# Altium schematic symbol library MyLibrary.SchLib: 261 symbols (part 2 of 4)
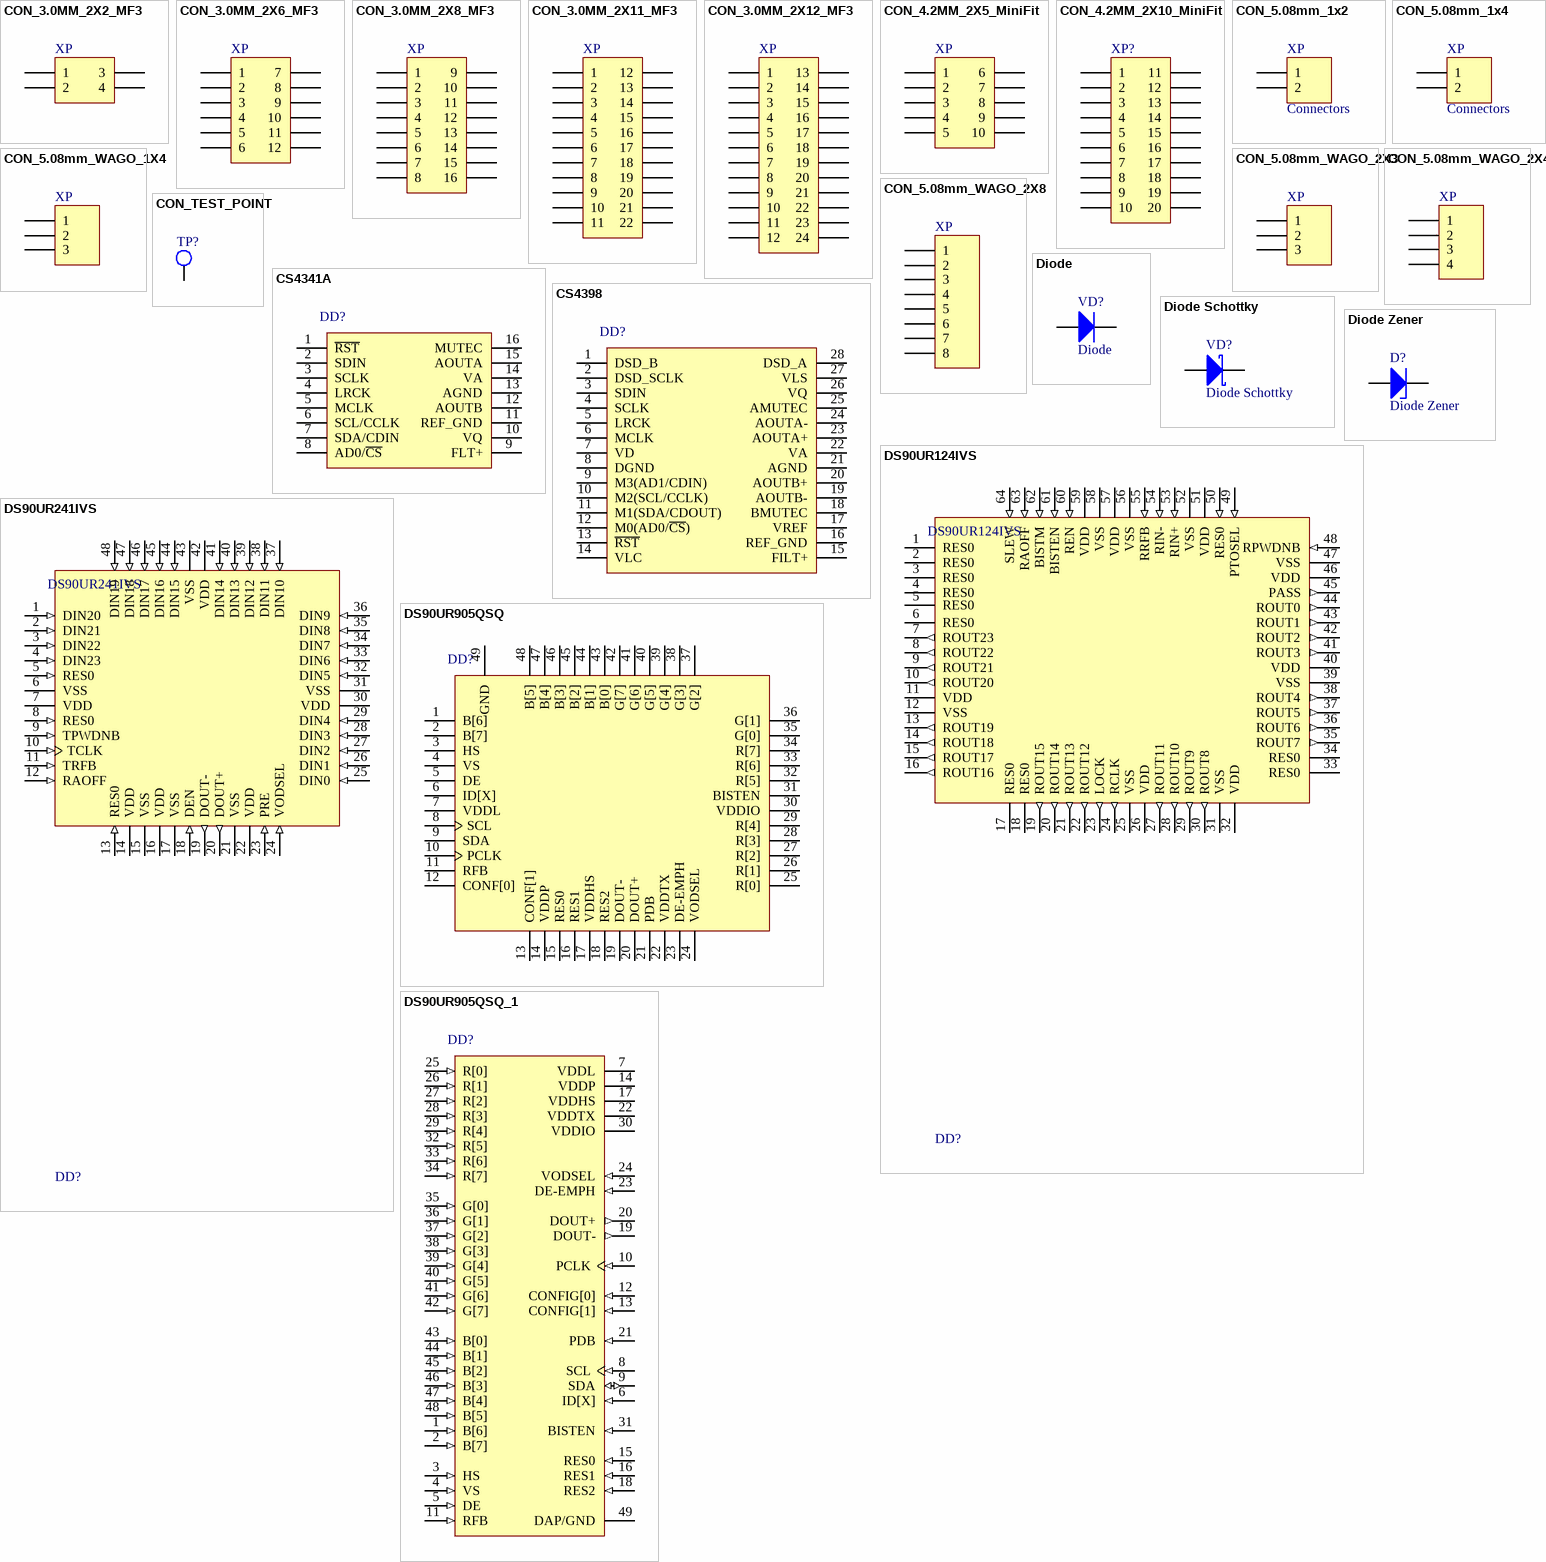
[diagram p10: symbols CON_3.0MM_2X2_MF3 to DS90UR905QSQ_1]

## CON_4.2MM_2X10_MiniFit
designator XP?
Header, 14-Pin; LatestRevisionDate: 17-Jul-2002; LatestRevisionNote: Re-released for DXP Platform.; Publisher: Altium Limited
footprint CON_4.2MM_2X10_MINIFIT (Connector; Header;)
pins: 1 "MISO", 2 "VCC+", 3 "SCK", 4 "MOSI", 5 "RESET", 6 "GND", 7 "GND", 8 "GND", 9, 10, 11, 12, 13, 14, 15, 16, 17, 18, 19, 20

## CON_5.08mm_1x2
designator XP, comment Connectors
Header, 2-Pin; LatestRevisionDate: 17-Jul-2002; LatestRevisionNote: Re-released for DXP Platform.; Publisher: Altium Limited
footprint CON_5.08MM_1X2 (Connector; Header; 2 Position)
pins: 1, 2

## CON_5.08mm_1x4
designator XP, comment Connectors
Header, 2-Pin; LatestRevisionDate: 17-Jul-2002; LatestRevisionNote: Re-released for DXP Platform.; Publisher: Altium Limited
footprint CON_5.08MM_1X4 (Connector; Header; 2 Position)
pins: 1, 2

## CON_5.08mm_WAGO_1X4
designator XP
Header, 2-Pin; LatestRevisionDate: 17-Jul-2002; LatestRevisionNote: Re-released for DXP Platform.; Publisher: Altium Limited
footprint CON_5.08MM_WAGO_1X4 (Connector; Header; 2 Position)
pins: 1, 2, 3

## CON_5.08mm_WAGO_2X3
designator XP
Header, 2-Pin; LatestRevisionDate: 17-Jul-2002; LatestRevisionNote: Re-released for DXP Platform.; Publisher: Altium Limited
footprint CON_5.08MM_WAGO_2X3 (Connector; Header; 2 Position)
pins: 1, 2, 3

## CON_5.08mm_WAGO_2X4
designator XP
Header, 2-Pin; LatestRevisionDate: 17-Jul-2002; LatestRevisionNote: Re-released for DXP Platform.; Publisher: Altium Limited
footprint CON_5.08MM_WAGO_2X4 (Connector; Header; 2 Position)
pins: 1, 2, 3, 4

## CON_5.08mm_WAGO_2X8
designator XP
Header, 2-Pin; LatestRevisionDate: 17-Jul-2002; LatestRevisionNote: Re-released for DXP Platform.; Publisher: Altium Limited
footprint CON_5.08MM_WAGO_2X8 (Connector; Header; 2 Position)
pins: 1, 2, 3, 4, 5, 6, 7, 8

## CON_TEST_POINT
designator TP?
Test Point
footprint CON_TEST_POINT (Connector; Plug)
pins: 1

## CS4341A
designator DD?
24-Bit, 192 kHz Stereo DAC with Volume Control
footprint SOIC-16_L (SOIC, 16-Leads, Body 9.9x3.9mm, Pitch 1.27mm, IPC High Density)
pins: 1 ~{RST}, 2 SDIN, 3 SCLK, 4 LRCK, 5 MCLK, 6 SCL/CCLK, 7 SDA/CDIN, 8 AD0/~{CS}, 9 FLT+, 10 VQ, 11 REF_GND, 12 AOUTB, 13 AGND, 14 VA, 15 AOUTA, 16 MUTEC

## CS4398
designator DD?
24-Bit, 192 kHz Stereo DAC with Volume Control
footprint SSOP-28W (SSOP, Plastic; 28 Leads; Body Width 5.3 mm; Pitch 0.65 mm)
pins: 1 DSD_B, 2 DSD_SCLK, 3 SDIN, 4 SCLK, 5 LRCK, 6 MCLK, 7 VD, 8 DGND, 9 M3(AD1/CDIN), 10 M2(SCL/CCLK), 11 M1(SDA/CDOUT), 12 M0(AD0/~{CS}), 13 ~{RST}, 14 VLC, 15 FILT+, 16 REF_GND, 17 VREF, 18 BMUTEC, 19 AOUTB-, 20 AOUTB+, 21 AGND, 22 VA, 23 AOUTA+, 24 AOUTA-, 25 AMUTEC, 26 VQ, 27 VLS, 28 DSD_A

## Diode
designator VD?
1 Amp General Purpose Rectifier; Published: 8-Jun-2000; LatestRevisionDate: 17-Jul-2002; LatestRevisionNote: Re-released for DXP Platform.; DatasheetVersion: 1998; PackageVersion: Aug-1999; PackageReference: DO-41; Publisher: Altium Limited; PackageDescription: Diode, Axial; Body 5.2 x 2.7 mm (LxDia. max), Lead Dia. 0.86 mm (max); Code_JEDEC: DO-204-AL; ComponentLink1Description: Manufacturer Link; ComponentLink1URL: http://www.fairchildsemi.com/; ComponentLink2Description: Datasheet; ComponentLink2URL: http://www.fairchildsemi.com/ds/1N%2F1N4001.pdf
footprint RES 0805_M (Chip Resistor, Body 2.0x1.2mm, IPC Low Density)
pins: 1 A, 2 K

## Diode Schottky
designator VD?
Silicon RF Schottky Diode for Mixer Applications in the VHF/UHF Range; Note: Pin 2 is not connected and not drawn.; Published: 21-Mar-2003; LatestRevisionDate: 29-May-2009; LatestRevisionNote: IPC-7351 Footprint Added.; DatasheetVersion: Oct-1999; PackageVersion: Sep-2001; PackageReference: SOT-23; Publisher: Altium Limited; PackageDescription: 3-Pin SOT-23 Package 0.95 mm Pitch, 2.5 mm Lead Span; ComponentLink1Description: Manufacturer Link; ComponentLink1URL: http://www.infineon.com/; ComponentLink2Description: Datasheet; ComponentLink2URL: http://www.infineon.com/upload/Document/cmc_upload/documents/009/363/bat17series.pdf
footprint RES 0805_M (Chip Resistor, Body 2.0x1.2mm, IPC Low Density)
pins: 1 A, 2 K

## Diode Zener
designator D?
Zener Diode; Published: 8-Jun-2000; LatestRevisionDate: 17-Jul-2002; LatestRevisionNote: Re-released for DXP Platform.; PackageReference: DIODE-0.7; Publisher: Altium Limited; PackageDescription: Diode, Thru-Hole; 2 Leads; 0.7 in Pin Spacing
footprint SOT-23_L (SOT23, 3-Leads, Body 2.9x1.3mm, Pitch 0.95mm, Lead Span 2.3mm - Reverse Pinning, IPC High Density)
pins: 1 A, 3 K

## DS90UR124IVS
designator DD?
Serializer 5-43 MHz DC-Balanced 24-Bit LVDS
footprint TQFP64_L (Thin QFP, 64-Leads, Body 10x10mm, Pitch 0.5mm, IPC High Density)
footprint TQFP64_M (Thin QFP, 64-Leads, Body 10x10mm, Pitch 0.5mm, IPC Low Density)
footprint TQFP64_N (Thin QFP, 64-Leads, Body 10x10mm, Pitch 0.5mm, IPC Medium Density)
pins: 1 RES0, 2 RES0, 3 RES0, 4 RES0, 5 RES0, 6 RES0, 7 ROUT23 (out), 8 ROUT22 (out), 9 ROUT21 (out), 10 ROUT20 (out), 11 VDD (power), 12 VSS (power), 13 ROUT19 (out), 14 ROUT18 (out), 15 ROUT17 (out), 16 ROUT16 (out), 17 RES0, 18 RES0, 19 ROUT15 (out), 20 ROUT14 (out), 21 ROUT13 (out), 22 ROUT12 (out), 23 LOCK (out), 24 RCLK (out), 25 VSS (power), 26 VDD (power), 27 ROUT11 (out), 28 ROUT10 (out), 29 ROUT9 (out), 30 ROUT8 (out), 31 VSS (power), 32 VDD (power), 33 RES0, 34 RES0, 35 ROUT7 (out), 36 ROUT6 (out), 37 ROUT5 (out), 38 ROUT4 (out), 39 VSS (power), 40 VDD (power), 41 ROUT3 (out), 42 ROUT2 (out), 43 ROUT1 (out), 44 ROUT0 (out), 45 PASS (out), 46 VDD (power), 47 VSS (power), 48 RPWDNB (in), 49 PTOSEL (in), 50 RES0 (in), 51 VDD (power), 52 VSS (power), 53 RIN+ (in), 54 RIN- (in), 55 RRFB (in), 56 VSS (power), 57 VDD (power), 58 VSS (power), 59 VDD (power), 60 REN (in), 61 BISTEN (in), 62 BISTM (in), 63 RAOFF (in), 64 SLEW (in)

## DS90UR241IVS
designator DD?
Deserializer 5-43 MHz DC-Balanced 24-Bit LVDS
footprint TQFP48_L (Thin QFP, 48-Leads, Body 7x7mm, Pitch 0.5mm, IPC High Density)
footprint TQFP48_M (Thin QFP, 48-Leads, Body 7x7mm, Pitch 0.5mm, IPC Low Density)
footprint TQFP48_N (Thin QFP, 48-Leads, Body 7x7mm, Pitch 0.5mm, IPC Medium Density)
pins: 1 DIN20 (in), 2 DIN21 (in), 3 DIN22 (in), 4 DIN23 (in), 5 RES0 (in), 6 VSS (power), 7 VDD (power), 8 RES0 (in), 9 TPWDNB (in), 10 TCLK (in), 11 TRFB (in), 12 RAOFF (in), 13 RES0 (in), 14 VDD (power), 15 VSS (power), 16 VDD (power), 17 VSS (power), 18 DEN (in), 19 DOUT- (out), 20 DOUT+ (out), 21 VSS (power), 22 VDD (power), 23 PRE (in), 24 VODSEL (in), 25 DIN0 (in), 26 DIN1 (in), 27 DIN2 (in), 28 DIN3 (in), 29 DIN4 (in), 30 VDD (power), 31 VSS (power), 32 DIN5 (in), 33 DIN6 (in), 34 DIN7 (in), 35 DIN8 (in), 36 DIN9 (in), 37 DIN10 (in), 38 DIN11 (in), 39 DIN12 (in), 40 DIN13 (in), 41 DIN14 (in), 42 VDD (power), 43 VSS (power), 44 DIN15 (in), 45 DIN16 (in), 46 DIN17 (in), 47 DIN18 (in), 48 DIN19 (in)

## DS90UR905QSQ
designator DD?
Serializer and Deserializer 5- to 65-MHz, 24-bit Color FPD-Link II
footprint QFN48 (QFN, 48-Leads, Body 7x7mm, Pitch 0.5mm, NSC Recommended)
pins: 1 B[6], 2 B[7], 3 HS, 4 VS, 5 DE, 6 ID[X], 7 VDDL, 8 SCL, 9 SDA, 10 PCLK, 11 RFB, 12 CONF[0], 13 CONF[1], 14 VDDP, 15 RES0, 16 RES1, 17 VDDHS, 18 RES2, 19 DOUT-, 20 DOUT+, 21 PDB, 22 VDDTX, 23 DE-EMPH, 24 VODSEL, 25 R[0], 26 R[1], 27 R[2], 28 R[3], 29 R[4], 30 VDDIO, 31 BISTEN, 32 R[5], 33 R[6], 34 R[7], 35 G[0], 36 G[1], 37 G[2], 38 G[3], 39 G[4], 40 G[5], 41 G[6], 42 G[7], 43 B[0], 44 B[1], 45 B[2], 46 B[3], 47 B[4], 48 B[5], 49 GND

## DS90UR905QSQ_1
designator DD?
Serializer and Deserializer 5- to 65-MHz, 24-bit Color FPD-Link II
footprint QFN48 (QFN, 48-Leads, Body 7x7mm, Pitch 0.5mm, NSC Recommended)
pins: 1 B[6] (in), 2 B[7] (in), 3 HS (in), 4 VS (in), 5 DE (in), 6 ID[X] (in), 7 VDDL (power), 8 SCL (in), 9 SDA (io), 10 PCLK (in), 11 RFB (in), 12 CONFIG[0] (in), 13 CONFIG[1] (in), 14 VDDP (power), 15 RES0 (in), 16 RES1 (in), 17 VDDHS (power), 18 RES2 (in), 19 DOUT- (out), 20 DOUT+ (out), 21 PDB (in), 22 VDDTX (power), 23 DE-EMPH (in), 24 VODSEL (in), 25 R[0] (in), 26 R[1] (in), 27 R[2] (in), 28 R[3] (in), 29 R[4] (in), 30 VDDIO (power), 31 BISTEN (in), 32 R[5] (in), 33 R[6] (in), 34 R[7] (in), 35 G[0] (in), 36 G[1] (in), 37 G[2] (in), 38 G[3] (in), 39 G[4] (in), 40 G[5] (in), 41 G[6] (in), 42 G[7] (in), 43 B[0] (in), 44 B[1] (in), 45 B[2] (in), 46 B[3] (in), 47 B[4] (in), 48 B[5] (in), 49 DAP/GND (power)

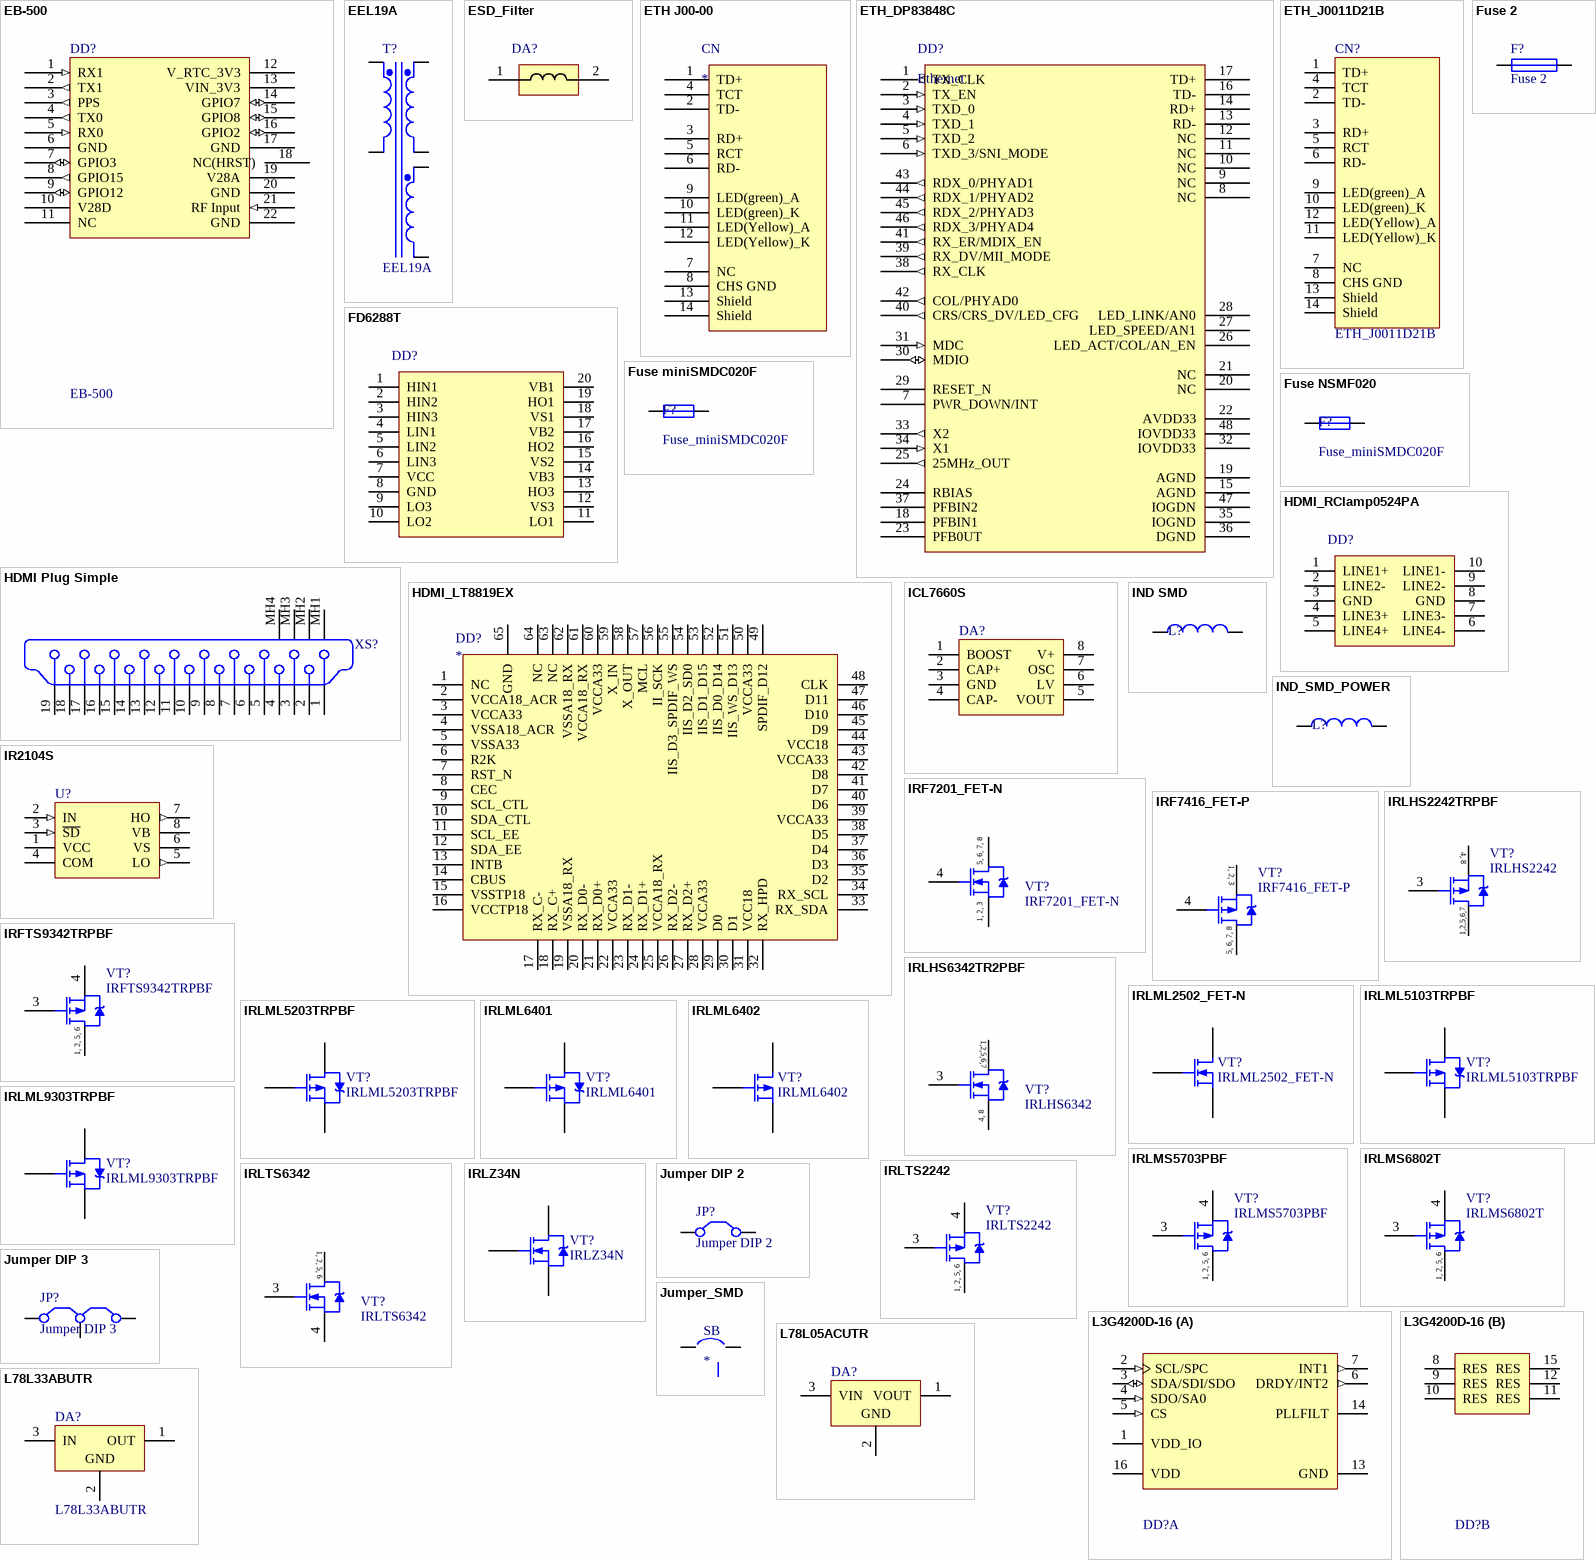
[diagram p3: symbols EB-500 to L78L33ABUTR]

## EB-500
designator DD?
GPS engine board; Published: 1-Apr-2010; DatasheetVersion: revC, Jul-2009; PackageVersion: revB, Oct-2001; PackageReference: 32A; Publisher: Altium Limited; PackageDescription: 32-Lead, 7x7x1.0 mm Body, 0.8mm Lead Pitch, Thin Profile Plastic Quad Flat Package (TQFP); Supplier 1: Digi-Key; Supplier Part Number 1: ATMEGA8A-AU-ND; Supplier 2: Farnell; Supplier Part Number 2: 1748532; Supplier 3: Mouser; Supplier Part Number 3: 556-ATMEGA8A-AU; Code_JEDEC: MS-026-ABA; ComponentLink1Description: Manufacturer Link; ComponentLink1URL: http://www.atmel.com/products/avr/default.asp?; ComponentLink2Description: ATmega8A Datasheet; ComponentLink2URL: http://www.atmel.com/dyn/resources/prod_documents/doc8159.pdf; ComponentLink3Description: ATmega8A Summary; ComponentLink3URL: http://www.atmel.com/dyn/resources/prod_documents/8159S.pdf; ComponentLink4Description: Atmel.com Home; ComponentLink4URL: http://www.atmel.com
footprint EB500_127P1300X1500X200-22N (LCC, 22-Pins, Body 13,0x15,0mm (max), Pitch 1,27mm, IPC Medium Density)
pins: 1 RX1 (in), 2 TX1 (out), 3 PPS (out), 4 TX0 (out), 5 RX0 (in), 6 GND (power), 7 GPIO3 (io), 8 GPIO15 (out) "GPS status, blink when GPS has position fix", 9 GPIO12 (io), 10 V28D (power), 11 NC, 12 V_RTC_3V3 (power), 13 VIN_3V3 (power), 14 GPIO7 (io), 15 GPIO8 (io), 16 GPIO2 (io), 17 GND (power), 18 NC(HRST) "NC (GPS reset, active low. Internal pull high", 19 V28A (power), 20 GND (power), 21 RF Input (in) "Antenna port, L1, 1575.42MHz, 50 ohm", 22 GND (power)

## EEL19A
designator T?
Three-winding Transformer (Non-Ideal); Sim Note: Enter the turns ratios, Core loss resistance, Magnetising Reactance, Leakage Reactances and Resistances referred to the primary side into the parameter fields.; Published: 25-Jan-2001; LatestRevisionDate: 17-Jul-2002; LatestRevisionNote: Re-released for DXP Platform.; PackageReference: TRF_6; Publisher: Altium Limited; PackageDescription: Transformer; 6 Leads
footprint TRF_6 (Transformer; 6 Leads)
pins: 1 Pri+, 2 Pri-, 3 Sec1+, 4 Sec1-, 5 Sec2+, 6 Sec2-

## ESD_Filter
designator DA?
ESD_Filter
footprint IND 0402 (Chip Capacitor; Body 1.0 x 0.5 mm (LxW typ))
footprint IND 0603_N (Chip Capacitor; Body 1.6 x 0.8 mm (LxW typ))
footprint IND 0805_N (Chip Resistor, Body 2.0x1.2mm, IPC Low Density)
pins: 1, 2

## ETH J00-00
designator CN
footprint RJ-45 (Connector; Header; 3 Position)
pins: 1 TD+, 2 TD-, 3 RD+, 4 TCT, 5 RCT, 6 RD-, 7 NC, 8 CHS GND, 9 LED(green)_A, 10 LED(green)_K, 11 LED(Yellow)_A, 12 LED(Yellow)_K, 13 Shield, 14 Shield

## ETH_DP83848C
designator DD?, comment Ethernet
DP83848C PHUTER Commercial Temperature Single Port 10/100 Mb/s Ethernrt Physical Layer Transceiver; Published: 30-May-2008; DatasheetVersion: rev6, Mar-2008; PackageVersion: Mar-2008; PackageReference: LQFP48; Publisher: Altium Limited; PackageDescription: 48-Pin Low-Profile Quad Flat Pack, 7 x 7 mm Body, 0.5 mm Pitch (LQFP48); ComponentLink1Description: Manufacturer Link; ComponentLink1URL: www.st.com/stm32; ComponentLink2Description: Datasheet; ComponentLink2URL: http://www.st.com/stonline/products/literature/ds/13586.pdf
footprint LQFP48_N (Thin QFP, 48-Leads, Body 7x7mm, Pitch 0.5mm, IPC Medium Density)
pins: 1 TX_CLK (out), 2 TX_EN (in), 3 TXD_0 (in), 4 TXD_1 (in), 5 TXD_2 (in), 6 TXD_3/SNI_MODE (in), 7 PWR_DOWN/INT, 8 NC, 9 NC, 10 NC, 11 NC, 12 NC, 13 RD-, 14 RD+, 15 AGND (power), 16 TD-, 17 TD+, 18 PFBIN1 (power), 19 AGND (power), 20 NC, 21 NC, 22 AVDD33 (power), 23 PFB0UT (power), 24 RBIAS (power), 25 25MHz_OUT (out), 26 LED_ACT/COL/AN_EN, 27 LED_SPEED/AN1, 28 LED_LINK/AN0, 29 RESET_N, 30 MDIO (io), 31 MDC (in), 32 IOVDD33 (power), 33 X2 (out), 34 X1 (in), 35 IOGND (power), 36 DGND (power), 37 PFBIN2 (power), 38 RX_CLK (out), 39 RX_DV/MII_MODE (out), 40 CRS/CRS_DV/LED_CFG (out), 41 RX_ER/MDIX_EN (out), 42 COL/PHYAD0 (out), 43 RDX_0/PHYAD1 (out), 44 RDX_1/PHYAD2 (out), 45 RDX_2/PHYAD3 (out), 46 RDX_3/PHYAD4 (out), 47 IOGDN (power), 48 IOVDD33 (power)

## ETH_J0011D21B
designator CN?
footprint Model Name (Footprint not found)
footprint ETH_J0011D21B
pins: 1 TD+, 2 TD-, 3 RD+, 4 TCT, 5 RCT, 6 RD-, 7 NC, 8 CHS GND, 9 LED(green)_A, 10 LED(green)_K, 11 LED(Yellow)_K, 12 LED(Yellow)_A, 13 Shield, 14 Shield

## FD6288T
designator DD?
250V 3-Phase HVIC
footprint TSSOP-20_N (SOP, 20-Leads, Body 6.6x4.5mm, Pitch 0.65mm, IPC Medium Density)
pins: 1 HIN1 "Boot memory selection", 2 HIN2 "PF0-OSC_IN(PF0)/OSC_IN", 3 HIN3 "PF1-OSC_OUT(PF1)/OSC_OUT", 4 LIN1 "Device reset input / internal reset output (active low)", 5 LIN2 "Analog power supply", 6 LIN3 "PA0/USART1_CTS/ADC_IN0,RTC_TAMP2,WKUP1", 7 VCC "PA1/USART1_RTS,EVENTOUT/ADC_IN1", 8 GND "PA2/USART1_TX/ADC_IN2", 9 LO3 "PA3/USART1_RX/ADC_IN3", 10 LO2 "PA4/SPI1_NSS,USART1_CK,TIM14_CH1/ADC_IN4", 11 LO1 "PA5/SPI1_SCK/ADC_IN5", 12 VS3 "PA6/SPI1_MISO,TIM3_CH1,TIM1_BKIN,TIM16_CH1,EVENTOUT/ADC_IN6", 13 HO3 "PA7/SPI1_MOSI,TIM3_CH2,TIM14_CH1,TIM1_CH1N,TIM17_CH1,EVENTOUT/ADC_IN7", 14 VB3 "PB1/TIM3_CH4,TIM14_CH1,TIM1_CH3N/ADC_IN9", 15 VS2 "Ground", 16 HO2 "Digital power supply", 17 VB2 "PA9/USART1_TX,TIM1_CH2,I2C1_SCL", 18 VS1 "PA10/USART1_RX,TIM1_CH3,TIM17_BKIN,I2C1_SDA", 19 HO1 "PA13(SWDIO)/IR_OUT,SWDIO", 20 VB1 "PA14(SWCLK)/USART1_TX,SWCLK"

## Fuse 2
designator F?
Fuse; Published: 8-Jun-2000; LatestRevisionDate: 17-Jul-2002; LatestRevisionNote: Re-released for DXP Platform.; PackageReference: PIN-W2/E2.8; Publisher: Altium Limited; PackageDescription: Thru-Hole; 2 Leads
simulation model FUSE (Spice Subcircuit)
footprint FUSE 2 (Thru-Hole; 2 Leads)
pins: 1, 2

## Fuse miniSMDC020F
designator F?, comment Fuse_miniSMDC020F
Fuse; Published: 8-Jun-2000; LatestRevisionDate: 17-Jul-2002; LatestRevisionNote: Re-released for DXP Platform.; PackageReference: PIN-W2/E2.8; Publisher: Altium Limited; PackageDescription: Thru-Hole; 2 Leads
simulation model FUSE (Spice Subcircuit)
footprint FUSE_miniSMDC020F (Chip Capacitor, Body 3.2x2.5mm, IPC High Density)
pins: 1, 2

## Fuse NSMF020
designator F?, comment Fuse_miniSMDC020F
Fuse; Published: 8-Jun-2000; LatestRevisionDate: 17-Jul-2002; LatestRevisionNote: Re-released for DXP Platform.; PackageReference: PIN-W2/E2.8; Publisher: Altium Limited; PackageDescription: Thru-Hole; 2 Leads
simulation model FUSE (Spice Subcircuit)
footprint FUSE 1812 (Chip Resistor; Body 4.5 x 3.2 mm (LxW typ))
pins: 1, 2

## HDMI Plug Simple
designator XS?
HDMI ver1.3 Type C, Surface Mount, 19-Position, 3u" Au Terminal Plating, without Post; PCB_Layout: Complies with manufacturer's recommendation.; Published: 21-Sep-2007; DatasheetVersion: rev1, Nov-2006; PackageReference: mini-HDMI; Publisher: Altium Limited; PackageDescription: HDMI 1.3 Type C, SM, 19 Position, Female, Right Angle, Body 7.9 x 11.2 x 3.3 mm (LxWxH); ComponentLink1Description: Manufacturer Link; ComponentLink1URL: http://www.wieson.com/; ComponentLink2Description: Datasheet; ComponentLink2URL: http://www.wieson.com/drawing_dwn.php?ID=990&Field=ProImg
footprint HDMI RIGHT ANGLE SMT (3168 Series HDMI Type C, Female, Right-Angle, SMT)
pins: 1 "TMDS Data2+", 2 "TMDS Data2 Shield", 3 "TMDS Data2-", 4 "TMDS Data1+", 5 "TMDS Data1 Shield", 6 "TMDS Data1-", 7 "TMDS Data0+", 8 "TMDS Data0 Shield", 9 "TMDS Data0-", 10 "TMDS Clock+", 11 "TMDS Clock Shield", 12 "TMDS Clock-", 13 "CEC", 14 "Reserved (N/C on device)", 15 "SCL", 16 "SDA", 17 "DDC/CEC Ground", 18 "+5V Power", 19 "Hot Plug Detect", MH1 "Ground Plane (Shell)", MH2 "Ground Plane (Shell)", MH3 "Ground Plane (Shell)", MH4 "Ground Plane (Shell)"

## HDMI_LT8819EX
designator DD?
MHL/HDMI-BT656/BT1120 Converter
footprint QFN64_N (QFN, 64-Leads, Body 9x9mm, Pitch 0.5mm, Thermal Pad 4.5x4.5mm, IPC Medium Density)
pins: 1 NC, 2 VCCA18_ACR, 3 VCCA33, 4 VSSA18_ACR, 5 VSSA33, 6 R2K, 7 RST_N, 8 CEC, 9 SCL_CTL, 10 SDA_CTL, 11 SCL_EE, 12 SDA_EE, 13 INTB, 14 CBUS, 15 VSSTP18, 16 VCCTP18, 17 RX_C-, 18 RX_C+, 19 VSSA18_RX, 20 RX_D0-, 21 RX_D0+, 22 VCCA33, 23 RX_D1-, 24 RX_D1+, 25 VCCA18_RX, 26 RX_D2-, 27 RX_D2+, 28 VCCA33, 29 D0, 30 D1, 31 VCC18, 32 RX_HPD, 33 RX_SDA, 34 RX_SCL, 35 D2, 36 D3, 37 D4, 38 D5, 39 VCCA33, 40 D6, 41 D7, 42 D8, 43 VCCA33, 44 VCC18, 45 D9, 46 D10, 47 D11, 48 CLK, 49 SPDIF_D12, 50 VCCA33, 51 IIS_WS_D13, 52 IIS_D0_D14, 53 IIS_D1_D15, 54 IIS_D2_SD0, 55 IIS_D3_SPDIF_WS, 56 II_SCK, 57 MCL, 58 X_OUT, 59 X_IN, 60 VCCA33, 61 VCCA18_RX, 62 VSSA18_RX, 63 NC, 64 NC, 65 GND (power) "Ground supply pad in the bottom center of the package."

## HDMI_RClamp0524PA
designator DD?
Ultra Low Capacitance TVS Arrays
footprint HDMI_SLP2510P8 (SOT23, 5-Leads, Body 2.9x1.7mm, Pitch 0.95mm, Lead Span 2.8mm, IPC High Density)
pins: 1 LINE1+, 2 LINE2-, 3 GND, 4 LINE3+, 5 LINE4+, 6 LINE4-, 7 LINE3-, 8 GND, 9 LINE2-, 10 LINE1-

## ICL7660S
designator DA?
Voltage Splitter; Published: 15-Apr-2002; LatestRevisionDate: 13-Apr-2006; LatestRevisionNote: IPC-7351 Footprint Added.; DatasheetVersion: Mar-2000; PackageVersion: 1998; PackageReference: 751-05; Publisher: Altium Limited; PackageDescription: 8-Pin Small Outline Integrated Circuit 1.27 mm Pitch; Code_JEDEC: MS-012-AA; Code_IPC: SOIC127P600-8; ComponentLink1Description: Manufacturer Link; ComponentLink1URL: http://www.onsemi.com/site/products/taxonomy/0,4438,503,00.html; ComponentLink2Description: Datasheet; ComponentLink2URL: http://www.onsemi.com/pub/Collateral/MC33275-D.PDF
footprint SOIC-8_L (SOIC, 8-Leads, Body 4.9x3.9mm, Pitch 1.27mm, IPC High Density)
footprint SOIC-8_M (SOIC, 8-Leads, Body 4.9x3.9mm, Pitch 1.27mm, IPC Low Density)
footprint SOIC-16_N (SOIC, 16-Leads, Body 9.9x3.9mm, Pitch 1.27mm, IPC Medium Density)
pins: 1 BOOST (power), 2 CAP+ (power), 3 GND (power), 4 CAP- (power), 5 VOUT (power), 6 LV, 7 OSC, 8 V+ (power)

## IND SMD
designator L?
Inductor; Code_IEC: 1005; Published: 8-Jun-2000; LatestRevisionDate: 29-May-2009; LatestRevisionNote: IPC-7351 Footprint Added.; PackageReference: 0402-A; Publisher: Altium Limited; PackageDescription: Chip Inductor; Code_JEITA: 0402
footprint IND 0402 (Chip Capacitor; Body 1.0 x 0.5 mm (LxW typ))
footprint IND 0603_N (Chip Capacitor; Body 1.6 x 0.8 mm (LxW typ))
footprint IND 0805_N (Chip Resistor, Body 2.0x1.2mm, IPC Low Density)
footprint IND 1812_N (Chip Resistor, Body 2.0x1.2mm, IPC Low Density)
pins: 1, 2

## IND_SMD_POWER
designator L?
Power Inductor; Code_IEC: 1005; Published: 8-Jun-2000; LatestRevisionDate: 29-May-2009; LatestRevisionNote: IPC-7351 Footprint Added.; PackageReference: 0402-A; Publisher: Altium Limited; PackageDescription: Chip Inductor; Code_JEITA: 0402
footprint IND_CDRH74_7x7 (Chip Capacitor; Body 1.6 x 0.8 mm (LxW typ))
footprint IND_CDRH125_12x12 (Chip Capacitor; Body 1.6 x 0.8 mm (LxW typ))
footprint IND_CDRH127_12x12 (Chip Capacitor; Body 1.6 x 0.8 mm (LxW typ))
pins: 1, 2

## IR2104S
designator U?
High and Low Side Driver; Published: 8-Jun-2000; LatestRevisionDate: 13-Apr-2006; LatestRevisionNote: IPC-7351 Footprint Added.; DatasheetVersion: PD600461; PackageVersion: Feb-2001; PackageReference: SO-8; Publisher: Altium Limited; PackageDescription: 8-Pin Plastic Small Outline Integrated Circuit 1.27 mm Pitch; Code_JEDEC: MS-012-AA; Code_IPC: SOIC127P600-8; ComponentLink1Description: Manufacturer Link; ComponentLink1URL: http://www.irf.com/; ComponentLink2Description: Datasheet; ComponentLink2URL: http://www.irf.com/product-info/datasheets/data/ir2104.pdf
footprint SOIC-8_L (SOIC, 8-Leads, Body 4.9x3.9mm, Pitch 1.27mm, IPC High Density)
footprint SOIC-8_M (SOIC, 8-Leads, Body 4.9x3.9mm, Pitch 1.27mm, IPC Low Density)
footprint SOIC-8_N (SOIC, 8-Leads, Body 4.9x3.9mm, Pitch 1.27mm, IPC Medium Density)
pins: 1 VCC (power), 2 IN (in), 3 ~{SD} (in), 4 COM (power), 5 LO (out), 6 VS (power), 7 HO (out), 8 VB (power)

## IRF7201_FET-N
designator VT?
N-Channel MOSFET; Note: Pin 2 is electrically connected to pin 4.; Published: 8-Jun-2000; LatestRevisionDate: 17-Jul-2002; LatestRevisionNote: Re-released for DXP Platform.; DatasheetVersion: Aug-1997; PackageVersion: Feb-1997; PackageReference: TO-220AB; Publisher: Altium Limited; PackageDescription: TO, Thru-Hole, Vertical, Heatsink Mounted; 3 In-Line Leads; Pitch 2.54 mm; ComponentLink1Description: Manufacturer Link; ComponentLink1URL: http://www.irf.com/; ComponentLink2Description: Datasheet; ComponentLink2URL: http://www.irf.com/product-info/datasheets/data/irlz34n.pdf
footprint SOIC-8_L (SOIC, 8-Leads, Body 4.9x3.9mm, Pitch 1.27mm, IPC High Density)
footprint SOIC-8_N (SOIC, 8-Leads, Body 4.9x3.9mm, Pitch 1.27mm, IPC Medium Density)
footprint SOIC-8_M (SOIC, 8-Leads, Body 4.9x3.9mm, Pitch 1.27mm, IPC Low Density)
pins: 1 S, 2 S, 3 S, 4 G, 5 D, 6 D, 7 D, 8 D
text: 5, 6, 7, 8; 1, 2, 3

## IRF7416_FET-P
designator VT?
P-Channel MOSFET; Published: 8-Jun-2000; LatestRevisionDate: 13-Apr-2006; LatestRevisionNote: IPC-7351 Footprint Added.; DatasheetVersion: Aug-1997; PackageVersion: Feb-2001; PackageReference: SO-8; Publisher: Altium Limited; PackageDescription: 8-Pin Plastic Small Outline Integrated Circuit 1.27 mm Pitch; Code_JEDEC: MS-012-AA; Code_IPC: SOIC127P600-8; ComponentLink1Description: Manufacturer Link; ComponentLink1URL: http://www.irf.com/; ComponentLink2Description: Datasheet; ComponentLink2URL: http://www.irf.com/product-info/datasheets/data/irf7416.pdf
footprint SOIC-8_L (SOIC, 8-Leads, Body 4.9x3.9mm, Pitch 1.27mm, IPC High Density)
pins: 1 S, 2 S, 3 S, 4 G, 5 D, 6 D, 7 D, 8 D
text: 1, 2, 3; 5, 6, 7, 8

## IRFTS9342TRPBF
designator VT?
30V, 5.8A, 20V P-Channel MOSFET; Published: 8-Jun-2000; LatestRevisionDate: 13-Apr-2006; LatestRevisionNote: IPC-7351 Footprint Added.; DatasheetVersion: Aug-1997; PackageVersion: Feb-2001; PackageReference: SO-8; Publisher: Altium Limited; PackageDescription: 8-Pin Plastic Small Outline Integrated Circuit 1.27 mm Pitch; Code_JEDEC: MS-012-AA; Code_IPC: SOIC127P600-8; ComponentLink1Description: Manufacturer Link; ComponentLink1URL: http://www.irf.com/; ComponentLink2Description: Datasheet; ComponentLink2URL: http://www.irf.com/product-info/datasheets/data/irf7416.pdf
footprint TSOP-6 (Footprint not found)
pins: 1 D, 2 D, 3 G, 4 S, 5 D, 6 D
text: 1, 2, 5, 6

## IRLHS2242TRPBF
designator VT?, comment IRLHS2242
P-Channel MOSFET; Published: 8-Jun-2000; LatestRevisionDate: 13-Apr-2006; LatestRevisionNote: IPC-7351 Footprint Added.; DatasheetVersion: Aug-1997; PackageVersion: Feb-2001; PackageReference: SO-8; Publisher: Altium Limited; PackageDescription: 8-Pin Plastic Small Outline Integrated Circuit 1.27 mm Pitch; Code_JEDEC: MS-012-AA; Code_IPC: SOIC127P600-8; ComponentLink1Description: Manufacturer Link; ComponentLink1URL: http://www.irf.com/; ComponentLink2Description: Datasheet; ComponentLink2URL: http://www.irf.com/product-info/datasheets/data/irf7416.pdf
footprint PQFN2X2 (PQFN, 8-Leads, Body 2x2mm, Pitch 0.65mm)
pins: 1 D, 2 D, 3 G, 4 S, 5 D, 6 D, 7 D, 8 S
text: 4, 8; 1,2,5,6,7

## IRLHS6342TR2PBF
designator VT?, comment IRLHS6342
N-Channel MOSFET; Note: Pin 2 is electrically connected to pin 4.; Published: 8-Jun-2000; LatestRevisionDate: 17-Jul-2002; LatestRevisionNote: Re-released for DXP Platform.; DatasheetVersion: Aug-1997; PackageVersion: Feb-1997; PackageReference: TO-220AB; Publisher: Altium Limited; PackageDescription: TO, Thru-Hole, Vertical, Heatsink Mounted; 3 In-Line Leads; Pitch 2.54 mm; ComponentLink1Description: Manufacturer Link; ComponentLink1URL: http://www.irf.com/; ComponentLink2Description: Datasheet; ComponentLink2URL: http://www.irf.com/product-info/datasheets/data/irlz34n.pdf
footprint PQFN2X2 (PQFN, 8-Leads, Body 2x2mm, Pitch 0.65mm)
pins: 1 D, 2 D, 3 G, 4 S, 5 D, 6 D, 7 D, 8 S
text: 1,2,5,6,7; 4, 8

## IRLML2502_FET-N
designator VT?
N-Channel MOSFET; Published: 8-Jun-2000; LatestRevisionDate: 17-Jul-2002; LatestRevisionNote: Re-released for DXP Platform.; PackageVersion: 1995/1996; PackageReference: E3; Publisher: Altium Limited; PackageDescription: TO, Flat Index; 3 In-Line, Axial Leads; Body Dia. 4.6mm; Lead Dia. 0.5 mm (max)
footprint SOT-23_M (SOT23, 3-Leads, Body 2.9x1.3mm, Pitch 0.95mm, Lead Span 2.3mm - Reverse Pinning, IPC Low Density)
footprint SOT-23_L (SOT23, 3-Leads, Body 2.9x1.3mm, Pitch 0.95mm, Lead Span 2.3mm - Reverse Pinning, IPC High Density)
footprint SOT-23_N (SOT23, 3-Leads, Body 2.9x1.3mm, Pitch 0.95mm, Lead Span 2.3mm - Reverse Pinning, IPC Medium Density)
pins: 1 G, 2 S, 3 D

## IRLML5103TRPBF
designator VT?
30V, 0.6A, 1V P-Channel MOSFET; Note: Pin 4 not drawn and electrically connected to Pin 2.; Published: 8-Jun-2000; LatestRevisionDate: 17-Jul-2002; LatestRevisionNote: Re-released for DXP Platform.; DatasheetVersion: PD-9.390D; PackageVersion: Feb-1997; PackageReference: TO-220AB; Publisher: Altium Limited; PackageDescription: TO, Thru-Hole, Vertical, Heatsink Mounted; 3 In-Line Leads; Pitch 2.54 mm; ComponentLink1Description: Manufacturer Link; ComponentLink1URL: http://www.irf.com/
footprint SOT-23_L (SOT23, 3-Leads, Body 2.9x1.3mm, Pitch 0.95mm, Lead Span 2.3mm - Reverse Pinning, IPC High Density)
footprint SOT-23_M (SOT23, 3-Leads, Body 2.9x1.3mm, Pitch 0.95mm, Lead Span 2.3mm - Reverse Pinning, IPC Low Density)
footprint SOT-23_N (SOT23, 3-Leads, Body 2.9x1.3mm, Pitch 0.95mm, Lead Span 2.3mm - Reverse Pinning, IPC Medium Density)
pins: 1 G, 2 S, 3 D

## IRLML5203TRPBF
designator VT?
30V, 3A, 1V P-Channel MOSFET; Note: Pin 4 not drawn and electrically connected to Pin 2.; Published: 8-Jun-2000; LatestRevisionDate: 17-Jul-2002; LatestRevisionNote: Re-released for DXP Platform.; DatasheetVersion: PD-9.390D; PackageVersion: Feb-1997; PackageReference: TO-220AB; Publisher: Altium Limited; PackageDescription: TO, Thru-Hole, Vertical, Heatsink Mounted; 3 In-Line Leads; Pitch 2.54 mm; ComponentLink1Description: Manufacturer Link; ComponentLink1URL: http://www.irf.com/
footprint SOT-23_L (SOT23, 3-Leads, Body 2.9x1.3mm, Pitch 0.95mm, Lead Span 2.3mm - Reverse Pinning, IPC High Density)
footprint SOT-23_M (SOT23, 3-Leads, Body 2.9x1.3mm, Pitch 0.95mm, Lead Span 2.3mm - Reverse Pinning, IPC Low Density)
footprint SOT-23_N (SOT23, 3-Leads, Body 2.9x1.3mm, Pitch 0.95mm, Lead Span 2.3mm - Reverse Pinning, IPC Medium Density)
pins: 1 G, 2 S, 3 D

## IRLML6401
designator VT?
12V, 4.3A, 1V P-Channel MOSFET; Note: Pin 4 not drawn and electrically connected to Pin 2.; Published: 8-Jun-2000; LatestRevisionDate: 17-Jul-2002; LatestRevisionNote: Re-released for DXP Platform.; DatasheetVersion: PD-9.390D; PackageVersion: Feb-1997; PackageReference: TO-220AB; Publisher: Altium Limited; PackageDescription: TO, Thru-Hole, Vertical, Heatsink Mounted; 3 In-Line Leads; Pitch 2.54 mm; ComponentLink1Description: Manufacturer Link; ComponentLink1URL: http://www.irf.com/
footprint SOT-23_L (SOT23, 3-Leads, Body 2.9x1.3mm, Pitch 0.95mm, Lead Span 2.3mm - Reverse Pinning, IPC High Density)
footprint SOT-23_M (SOT23, 3-Leads, Body 2.9x1.3mm, Pitch 0.95mm, Lead Span 2.3mm - Reverse Pinning, IPC Low Density)
footprint SOT-23_N (SOT23, 3-Leads, Body 2.9x1.3mm, Pitch 0.95mm, Lead Span 2.3mm - Reverse Pinning, IPC Medium Density)
pins: 1 G, 2 S, 3 D

## IRLML6402
designator VT?
20V, 3.7A, 1V P-Channel MOSFET; Published: 8-Jun-2000; LatestRevisionDate: 17-Jul-2002; LatestRevisionNote: Re-released for DXP Platform.; PackageVersion: 1995/1996; PackageReference: E3; Publisher: Altium Limited; PackageDescription: TO, Flat Index; 3 In-Line, Axial Leads; Body Dia. 4.6mm; Lead Dia. 0.5 mm (max)
footprint SOT-23_L (SOT23, 3-Leads, Body 2.9x1.3mm, Pitch 0.95mm, Lead Span 2.3mm - Reverse Pinning, IPC High Density)
footprint SOT-23_M (SOT23, 3-Leads, Body 2.9x1.3mm, Pitch 0.95mm, Lead Span 2.3mm - Reverse Pinning, IPC Low Density)
footprint SOT-23_N (SOT23, 3-Leads, Body 2.9x1.3mm, Pitch 0.95mm, Lead Span 2.3mm - Reverse Pinning, IPC Medium Density)
pins: 1 G, 2 S, 3 D

## IRLML9303TRPBF
designator VT?
30V, 2.3A, P-Channel MOSFET; Note: Pin 4 not drawn and electrically connected to Pin 2.; Published: 8-Jun-2000; LatestRevisionDate: 17-Jul-2002; LatestRevisionNote: Re-released for DXP Platform.; DatasheetVersion: PD-9.390D; PackageVersion: Feb-1997; PackageReference: TO-220AB; Publisher: Altium Limited; PackageDescription: TO, Thru-Hole, Vertical, Heatsink Mounted; 3 In-Line Leads; Pitch 2.54 mm; ComponentLink1Description: Manufacturer Link; ComponentLink1URL: http://www.irf.com/
footprint SOT-23_L (SOT23, 3-Leads, Body 2.9x1.3mm, Pitch 0.95mm, Lead Span 2.3mm - Reverse Pinning, IPC High Density)
footprint SOT-23_M (SOT23, 3-Leads, Body 2.9x1.3mm, Pitch 0.95mm, Lead Span 2.3mm - Reverse Pinning, IPC Low Density)
footprint SOT-23_N (SOT23, 3-Leads, Body 2.9x1.3mm, Pitch 0.95mm, Lead Span 2.3mm - Reverse Pinning, IPC Medium Density)
pins: 1 G, 2 S, 3 D

## IRLMS5703PBF
designator VT?
30V, 1.9A, 20V P-Channel MOSFET; Published: 8-Jun-2000; LatestRevisionDate: 13-Apr-2006; LatestRevisionNote: IPC-7351 Footprint Added.; DatasheetVersion: Aug-1997; PackageVersion: Feb-2001; PackageReference: SO-8; Publisher: Altium Limited; PackageDescription: 8-Pin Plastic Small Outline Integrated Circuit 1.27 mm Pitch; Code_JEDEC: MS-012-AA; Code_IPC: SOIC127P600-8; ComponentLink1Description: Manufacturer Link; ComponentLink1URL: http://www.irf.com/; ComponentLink2Description: Datasheet; ComponentLink2URL: http://www.irf.com/product-info/datasheets/data/irf7416.pdf
footprint TSOP-6 (Footprint not found)
pins: 1 D, 2 D, 3 G, 4 S, 5 D, 6 D
text: 1, 2, 5, 6

## IRLMS6802T
designator VT?
20V, 5A, 1V P-Channel MOSFET 20V 4.5A; Published: 8-Jun-2000; LatestRevisionDate: 13-Apr-2006; LatestRevisionNote: IPC-7351 Footprint Added.; DatasheetVersion: Aug-1997; PackageVersion: Feb-2001; PackageReference: SO-8; Publisher: Altium Limited; PackageDescription: 8-Pin Plastic Small Outline Integrated Circuit 1.27 mm Pitch; Code_JEDEC: MS-012-AA; Code_IPC: SOIC127P600-8; ComponentLink1Description: Manufacturer Link; ComponentLink1URL: http://www.irf.com/; ComponentLink2Description: Datasheet; ComponentLink2URL: http://www.irf.com/product-info/datasheets/data/irf7416.pdf
footprint SOT-23-6_L (SOT23, 5-Leads, Body 2.9x1.7mm, Pitch 0.95mm, Lead Span 2.8mm, IPC High Density)
footprint SOT-23-6_N (SOT23, 5-Leads, Body 2.9x1.7mm, Pitch 0.95mm, Lead Span 2.8mm, IPC High Density)
pins: 1 D, 2 D, 3 G, 4 S, 5 D, 6 D
text: 1, 2, 5, 6

## IRLTS2242
designator VT?
20V, 6.9A, 1V P-Channel MOSFET; Published: 8-Jun-2000; LatestRevisionDate: 13-Apr-2006; LatestRevisionNote: IPC-7351 Footprint Added.; DatasheetVersion: Aug-1997; PackageVersion: Feb-2001; PackageReference: SO-8; Publisher: Altium Limited; PackageDescription: 8-Pin Plastic Small Outline Integrated Circuit 1.27 mm Pitch; Code_JEDEC: MS-012-AA; Code_IPC: SOIC127P600-8; ComponentLink1Description: Manufacturer Link; ComponentLink1URL: http://www.irf.com/; ComponentLink2Description: Datasheet; ComponentLink2URL: http://www.irf.com/product-info/datasheets/data/irf7416.pdf
footprint TSOP-6 (Footprint not found)
pins: 1 D, 2 D, 3 G, 4 S, 5 D, 6 D
text: 1, 2, 5, 6

## IRLTS6342
designator VT?
30V, 6.7A, 1V N-Channel MOSFET; Note: Pin 2 is electrically connected to pin 4.; Published: 8-Jun-2000; LatestRevisionDate: 17-Jul-2002; LatestRevisionNote: Re-released for DXP Platform.; DatasheetVersion: Aug-1997; PackageVersion: Feb-1997; PackageReference: TO-220AB; Publisher: Altium Limited; PackageDescription: TO, Thru-Hole, Vertical, Heatsink Mounted; 3 In-Line Leads; Pitch 2.54 mm; ComponentLink1Description: Manufacturer Link; ComponentLink1URL: http://www.irf.com/; ComponentLink2Description: Datasheet; ComponentLink2URL: http://www.irf.com/product-info/datasheets/data/irlz34n.pdf
footprint TSOP-6 (SOT-457/SC-74; 6 Leads; Body 3.1 x 2.9 mm, inc. leads (LxW max))
pins: 1 D, 2 D, 3 G, 4 S, 5 D, 6 D
text: 1, 2, 5, 6

## IRLZ34N
designator VT?
HEXFET Power MOSFET; Note: Pin 2 is electrically connected to pin 4.; Published: 8-Jun-2000; LatestRevisionDate: 17-Jul-2002; LatestRevisionNote: Re-released for DXP Platform.; DatasheetVersion: Aug-1997; PackageVersion: Feb-1997; PackageReference: TO-220AB; Publisher: Altium Limited; PackageDescription: TO, Thru-Hole, Vertical, Heatsink Mounted; 3 In-Line Leads; Pitch 2.54 mm; ComponentLink1Description: Manufacturer Link; ComponentLink1URL: http://www.irf.com/; ComponentLink2Description: Datasheet; ComponentLink2URL: http://www.irf.com/product-info/datasheets/data/irlz34n.pdf
footprint TO-220AB (TO, Thru-Hole, Vertical, Heatsink Mounted; 3 In-Line Leads; Pitch 2.54 mm)
pins: 1 G, 2 D, 3 S

## Jumper DIP 2
designator JP?
Jumper Wire; Published: 24-Mar-1999; LatestRevisionDate: 17-Jul-2002; LatestRevisionNote: Re-released for DXP Platform.; PackageReference: RAD-0.2; Publisher: Altium Limited; PackageDescription: Radial Cap, Thru-Hole; 2 Leads; 0.2 in Pin Spacing
footprint CON_2.54MM_1X2 (Connector; Header; 2 Position)
pins: 1 C1, 2 C2

## Jumper DIP 3
designator JP?
Jumper Wire; Published: 24-Mar-1999; LatestRevisionDate: 17-Jul-2002; LatestRevisionNote: Re-released for DXP Platform.; PackageReference: RAD-0.2; Publisher: Altium Limited; PackageDescription: Radial Cap, Thru-Hole; 2 Leads; 0.2 in Pin Spacing
footprint CON_2.54MM_1X3 (Connector; Header; 3 Position)
pins: 1 C1, 2 C2, 3 C2

## Jumper_SMD
designator SB
Jumper
footprint RES 1206_M (Chip Resistor, Body 2.0x1.2mm, IPC Low Density)
footprint RES 1210_L (Chip Capacitor, Body 3.2x2.5mm, IPC High Density)
footprint RES 0603_N (Chip Resistor, Body 2.0x1.2mm, IPC Low Density)
footprint RES 0805_N (Chip Resistor, Body 2.0x1.2mm, IPC Low Density)
footprint JUMPER_SOLDERED (Chip Resistor, Body 2.0x1.2mm, IPC Low Density)
pins: 1, 2

## L3G4200D-16
designator DD?
MEMS motion sensor
footprint LGA16-4X4X1.1_L L3G4200 (PQFN, 16-Leads, Body 4x4mm, Pitch 0.65mm, IPC High Density)
footprint LGA16-4X4X1.1_M L3G4200 (PQFN, 16-Leads, Body 4x4mm, Pitch 0.65mm, IPC Low Density)
footprint LGA16-4X4X1.1_N L3G4200 (PQFN, 16-Leads, Body 4x4mm, Pitch 0.65mm, IPC Medium Density)
part A pins: 1 VDD_IO, 2 SCL/SPC (in), 3 SDA/SDI/SDO (io), 4 SDO/SA0 (in), 5 CS (in), 6 DRDY/INT2 (out), 7 INT1 (out), 13 GND (power), 14 PLLFILT, 16 VDD
part B pins: 8 RES, 9 RES, 10 RES, 11 RES, 12 RES, 15 RES

## L78L05ACUTR
designator DA?
Vin=30V, Positive Voltage Regulator, 5V, 4-Pin SOT-89
footprint SOT-89 (SOT-89; Body 4.6 x 4.25 mm, inc. leads (LxW max))
pins: 1 VOUT (power), 2 GND (power), 3 VIN (power)

## L78L33ABUTR
designator DA?
Vin=30V Positive Voltage Regulator; Published: 24-Aug-2001; LatestRevisionDate: 17-Jul-2002; LatestRevisionNote: Re-released for DXP Platform.; DatasheetVersion: Feb-1999; PackageReference: TO92; Publisher: Altium Limited; PackageDescription: TO, Flat Index; 3 In-Line, Axial Leads; Body Dia. 4.8mm; Leads 0.51 x 0.51 mm (max); ComponentLink1Description: Manufacturer Link; ComponentLink1URL: http://www.st.com/
footprint SOT-89 (SOT-89; Body 4.6 x 4.25 mm, inc. leads (LxW max))
pins: 1 OUT (power), 2 GND (power), 3 IN (power)

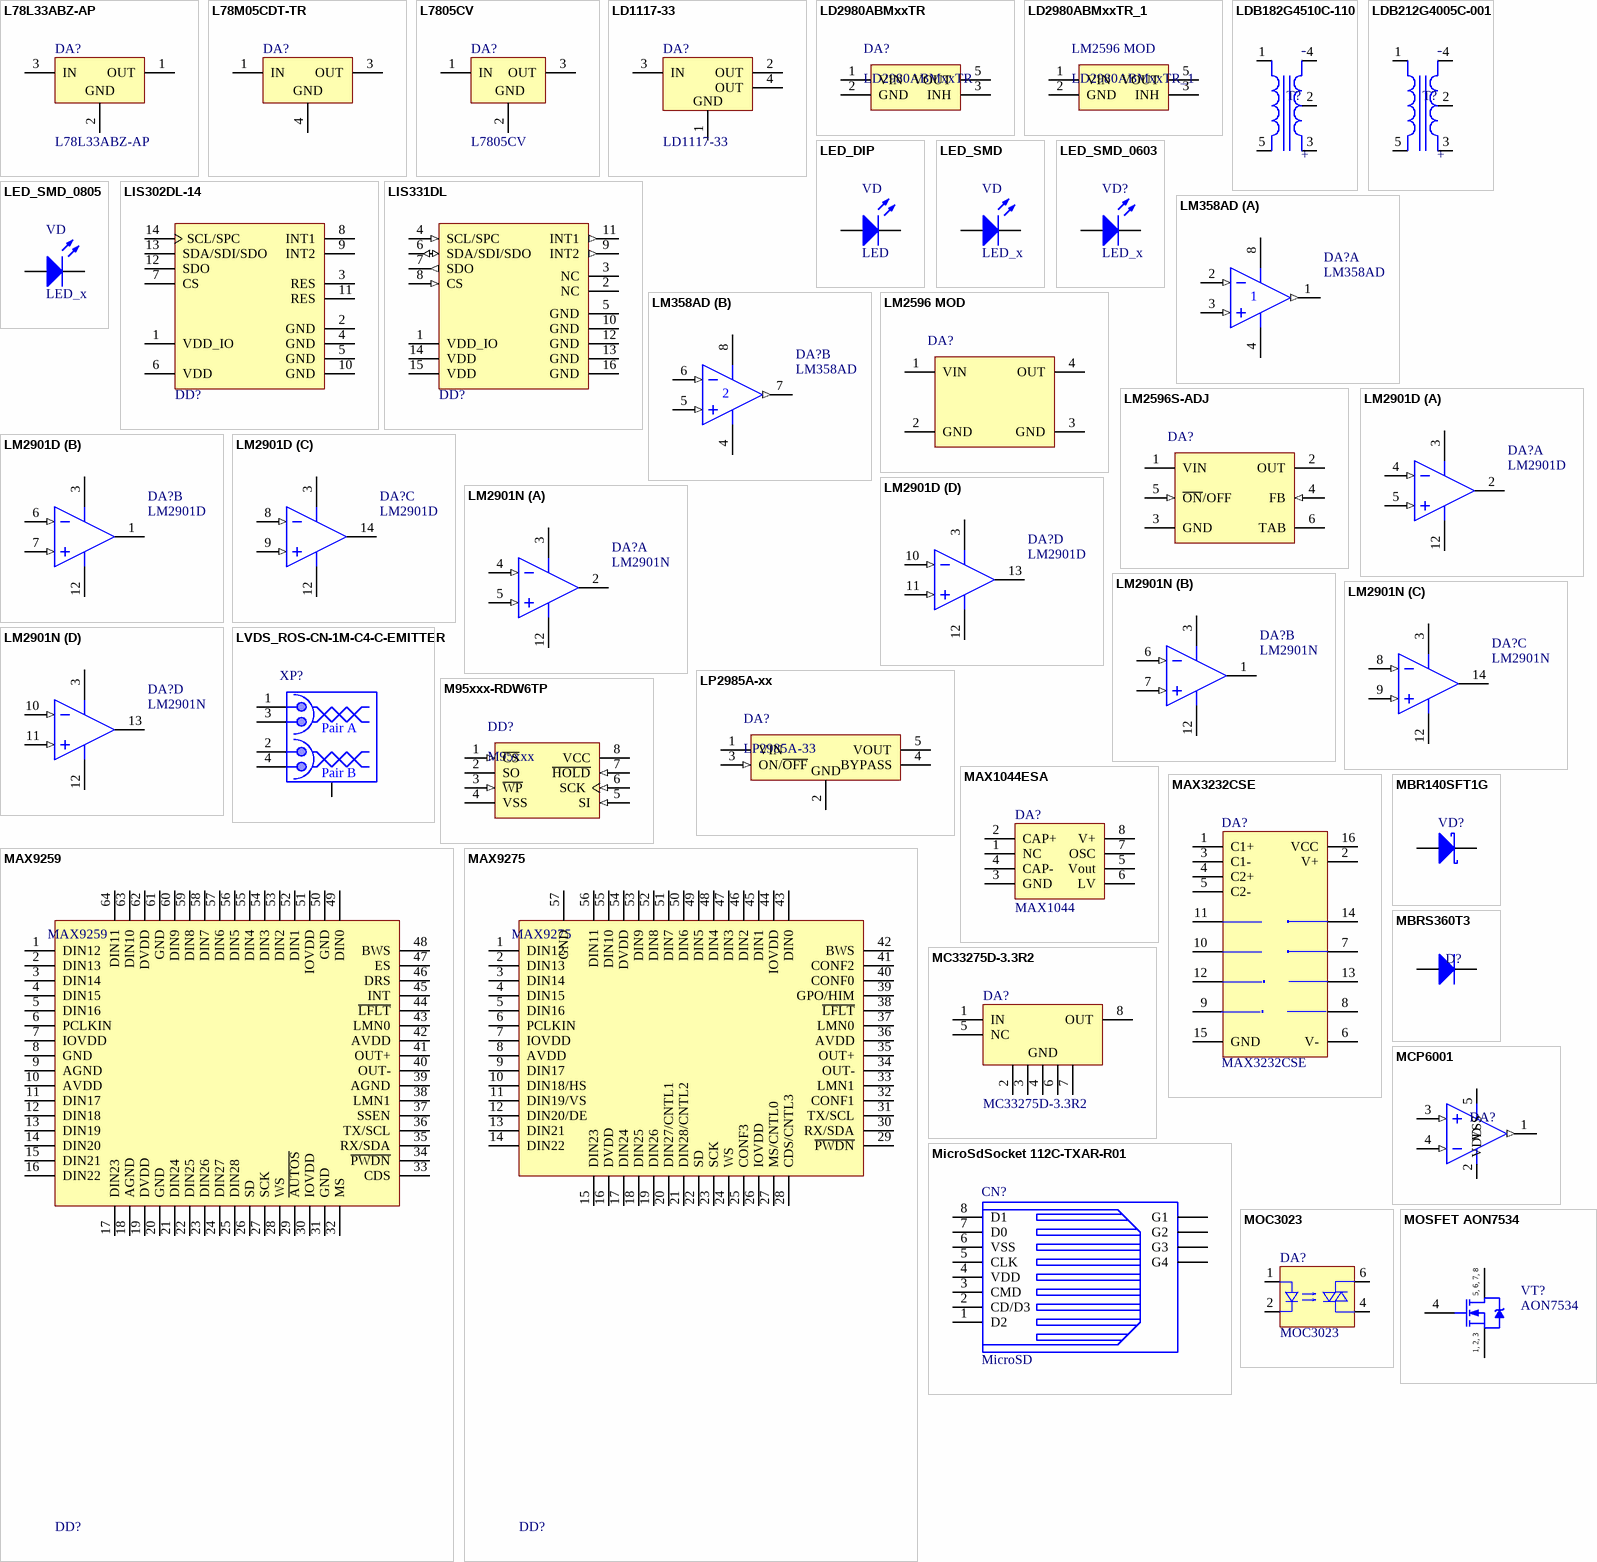
[diagram p4: symbols L78L33ABZ-AP to MOSFET AON7534]

## L78L33ABZ-AP
designator DA?
Vin=30V Positive Voltage Regulator; Published: 24-Aug-2001; LatestRevisionDate: 17-Jul-2002; LatestRevisionNote: Re-released for DXP Platform.; DatasheetVersion: Feb-1999; PackageReference: TO92; Publisher: Altium Limited; PackageDescription: TO, Flat Index; 3 In-Line, Axial Leads; Body Dia. 4.8mm; Leads 0.51 x 0.51 mm (max); ComponentLink1Description: Manufacturer Link; ComponentLink1URL: http://www.st.com/
footprint TO-92 (TO, Flat Index; 3 In-Line, Axial Leads; Body Dia. 4.8mm; Leads 0.51 x 0.51 mm (max))
pins: 1 OUT (power), 2 GND (power), 3 IN (power)

## L78M05CDT-TR
designator DA?
Uвх=35V, 0.5A, Uout=4.8-5.2Positive Voltage Regulator, 5V, 3-Pin DPAK
footprint TO-252_L_DPAK (D-PAK, 4-Leads, Body 6.1x6.5mm, Pitch 2.28mm, Lead Span 9.7mm, IPC High Density)
footprint TO-252_M_DPAK (D-PAK, 4-Leads, Body 6.1x6.5mm, Pitch 2.28mm, Lead Span 9.7mm, IPC Low Density)
footprint TO-252_N_DPAK (D-PAK, 4-Leads, Body 6.1x6.5mm, Pitch 2.28mm, Lead Span 9.7mm, IPC Medium Density)
pins: 1 IN (power), 3 OUT (power), 4 GND (power)

## L7805CV
designator DA?
Positive Voltage Regulator; Note: Heatsink surface connected to Pin 2; Published: 15-Apr-2002; DatasheetVersion: 1996; PackageVersion: 1997; PackageReference: 221A-06; Publisher: Altium Limited; PackageDescription: TO, Thru-Hole, Vertical, Heatsink Mounted; 3 In-Line Leads; Pitch 2.54 mm; Code_JEDEC: TO-262-AA; ComponentLink1Description: Manufacturer Link; ComponentLink1URL: http://www.onsemi.com/site/products/taxonomy/0,4438,503,00.html; ComponentLink2Description: Datasheet; ComponentLink2URL: http://www.onsemi.com/pub/Collateral/LM317-D.PDF
footprint TO-220AB (TO, Thru-Hole, Vertical, Heatsink Mounted; 3 In-Line Leads; Pitch 2.54 mm)
footprint TO-220_GOR (TO, Thru-Hole, Vertical, Heatsink Mounted; 3 In-Line Leads; Pitch 2.54 mm)
footprint TO-220_GOR_SHORT (TO, Thru-Hole, Vertical, Heatsink Mounted; 3 In-Line Leads; Pitch 2.54 mm)
pins: 1 IN (power), 2 GND (power), 3 OUT (power)

## LD1117-33
designator DA?
Vin=10V Low drop fixed and adjustable positive voltage regulators; Published: 24-Aug-2001; LatestRevisionDate: 17-Jul-2002; LatestRevisionNote: Re-released for DXP Platform.; DatasheetVersion: Feb-1999; PackageReference: TO92; Publisher: Altium Limited; PackageDescription: TO, Flat Index; 3 In-Line, Axial Leads; Body Dia. 4.8mm; Leads 0.51 x 0.51 mm (max); ComponentLink1Description: Manufacturer Link; ComponentLink1URL: http://www.st.com/
footprint SOT-223_L (SOT223, 4-Leads, Body 6.5x3.5mm, Pitch 2.3mm, Lead Span 7mm, IPC High Density)
pins: 1 GND (power), 2 OUT (power), 3 IN (power), 4 OUT (power)

## LD2980ABMxxTR
designator DA?
Ultra low drop voltage regulators compatible  with low ESR output capacitors
footprint SOT-23-5_L (SOT23, 5-Leads, Body 2.9x1.7mm, Pitch 0.95mm, Lead Span 2.8mm, IPC High Density)
footprint SOT-23-5_N (SOT23, 5-Leads, Body 2.9x1.7mm, Pitch 0.95mm, Lead Span 2.8mm, IPC High Density)
pins: 1 VIN (power), 2 GND (power), 3 INH, 5 VOUT (power)

## LD2980ABMxxTR_1
designator LM2596 MOD
Ultra low drop voltage regulators compatible  with low ESR output capacitors
footprint SOT-23-5_L (SOT23, 5-Leads, Body 2.9x1.7mm, Pitch 0.95mm, Lead Span 2.8mm, IPC High Density)
footprint SOT-23-5_N (SOT23, 5-Leads, Body 2.9x1.7mm, Pitch 0.95mm, Lead Span 2.8mm, IPC High Density)
pins: 1 VIN (power), 2 GND (power), 3 INH, 5 VOUT (power)

## LDB182G4510C-110
designator T?
SMD-Balun, 50to100, Murata; LatestRevisionDate: 17-Jul-2002; LatestRevisionNote: Re-released for DXP Platform.; Publisher: Altium Limited
footprint LDB18 MURATA (SOT-89; Body 4.6 x 4.25 mm, inc. leads (LxW max))
pins: 1 Pri+, 2 SecCT, 3 Sec+, 4 Sec-, 5 Pri-
text: -; +

## LDB212G4005C-001
designator T?
SMD-Balun, 50to50, Murata; LatestRevisionDate: 17-Jul-2002; LatestRevisionNote: Re-released for DXP Platform.; Publisher: Altium Limited
footprint WE748-421-245 (SOT-89; Body 4.6 x 4.25 mm, inc. leads (LxW max))
pins: 1 Pri+, 2 SecCT, 3 Sec+, 4 Sec-, 5 Pri-
text: -; +

## LED_DIP
designator VD, comment LED
Typical RED, GREEN, YELLOW, AMBER GaAs LED; Published: 8-Jun-2000; LatestRevisionDate: 17-Jul-2002; LatestRevisionNote: Re-released for DXP Platform.; PackageVersion: Feb-2002; PackageReference: 3.2X1.6X1.1; Publisher: Altium Limited; PackageDescription: SM LED; 2 Flat Leads
footprint LED_DIP_2.5mm_Green (LED; 2 Leads)
footprint LED_DIP_2.5MM_RED (LED; 2 Leads)
footprint LED_DIP_2.5MM_YELLOW (LED; 2 Leads)
footprint LED_DIP_2.54MM_BLUE (LED; 2 Leads)
footprint LED_DIP_2.5mm_Blue (LED; 2 Leads)
pins: 1 A, 2 K

## LED_SMD
designator VD, comment LED_x
LED; Published: 8-Jun-2000; LatestRevisionDate: 17-Jul-2002; LatestRevisionNote: Re-released for DXP Platform.; PackageVersion: Feb-2002; PackageReference: 3.2X1.6X1.1; Publisher: Altium Limited; PackageDescription: SM LED; 2 Flat Leads
footprint LED 1206 (Chip Resistor, Body 2.0x1.2mm, IPC Low Density)
footprint LED 30x28 (Chip Resistor, Body 2.0x1.2mm, IPC Low Density)
pins: 1 A, 2 K

## LED_SMD_0603
designator VD?, comment LED_x
LED 0603; Published: 8-Jun-2000; LatestRevisionDate: 17-Jul-2002; LatestRevisionNote: Re-released for DXP Platform.; PackageVersion: Feb-2002; PackageReference: 3.2X1.6X1.1; Publisher: Altium Limited; PackageDescription: SM LED; 2 Flat Leads
footprint LED 0603 BLUE (Chip Capacitor; Body 1.6 x 0.8 mm (LxW typ))
footprint LED 0603 GREEN (Chip Capacitor; Body 1.6 x 0.8 mm (LxW typ))
footprint LED 0603 RED (Chip Capacitor; Body 1.6 x 0.8 mm (LxW typ))
pins: 1 A, 2 K

## LED_SMD_0805
designator VD, comment LED_x
LED 0805; Published: 8-Jun-2000; LatestRevisionDate: 17-Jul-2002; LatestRevisionNote: Re-released for DXP Platform.; PackageVersion: Feb-2002; PackageReference: 3.2X1.6X1.1; Publisher: Altium Limited; PackageDescription: SM LED; 2 Flat Leads
footprint LED 0805 BLUE (Chip Resistor, Body 2.0x1.2mm, IPC Low Density)
footprint LED 0805 GREEN (Chip Resistor, Body 2.0x1.2mm, IPC Low Density)
footprint LED 0805 LIGHT (Chip Resistor, Body 2.0x1.2mm, IPC Low Density)
footprint LED 0805 RED (Chip Resistor, Body 2.0x1.2mm, IPC Low Density)
footprint LED 0805 YELLOW (Chip Resistor, Body 2.0x1.2mm, IPC Low Density)
pins: 1 A, 2 K

## LIS302DL-14
designator DD?
Smart digital output “piccolo” accelerometer
footprint LGA14-3X5X1_L (PQFN, 14-Leads, Body 3x5mm, Pitch 0.8mm, IPC High Density)
footprint LGA14-3X5X1_M (PQFN, 14-Leads, Body 3x5mm, Pitch 0.8mm, IPC Low Density)
footprint LGA14-3X5X1_N (PQFN, 14-Leads, Body 3x5mm, Pitch 0.8mm, IPC Medium Density)
pins: 1 VDD_IO, 2 GND, 3 RES, 4 GND, 5 GND, 6 VDD, 7 CS, 8 INT1, 9 INT2, 10 GND, 11 RES, 12 SDO, 13 SDA/SDI/SDO, 14 SCL/SPC

## LIS331DL
designator DD?
Smart digital output “piccolo” accelerometer
footprint LGA16-3X3X1.1_L LIS331DL (PQFN, 16-Leads, Body 4x4mm, Pitch 0.65mm, IPC Medium Density)
footprint LGA16-3X3X1.1_M LIS331DL (PQFN, 16-Leads, Body 4x4mm, Pitch 0.65mm, IPC Medium Density)
footprint LGA16-3X3X1.1_N LIS331DL (PQFN, 16-Leads, Body 4x4mm, Pitch 0.65mm, IPC Medium Density)
pins: 1 VDD_IO, 2 NC (power), 3 NC, 4 SCL/SPC (in), 5 GND (power), 6 SDA/SDI/SDO (io), 7 SDO (out), 8 CS (in), 9 INT2 (out), 10 GND (power), 11 INT1 (out), 12 GND, 13 GND (power), 14 VDD, 15 VDD, 16 GND (power)

## LM358AD
designator DA?
Dual Operational Amplifier; Published: 15-Apr-2002; LatestRevisionDate: 13-Apr-2006; LatestRevisionNote: IPC-7351 Footprint Added.; DatasheetVersion: Aug-1988; PackageVersion: Jan-1998; PackageReference: D008; Publisher: Altium Limited; PackageDescription: 8-Pin Small Outline Integrated Circuit 1.27 mm Pitch; Code_IPC: SOIC127P600-8; ComponentLink1Description: Manufacturer Link; ComponentLink1URL: http://www.ti.com/; ComponentLink2Description: Datasheet; ComponentLink2URL: http://www-s.ti.com/sc/ds/lm358.pdf
footprint SOIC-8_L (SOIC, 8-Leads, Body 4.9x3.9mm, Pitch 1.27mm, IPC High Density)
footprint SOIC-8_M (SOIC, 8-Leads, Body 4.9x3.9mm, Pitch 1.27mm, IPC Low Density)
footprint DIP-8 (DIP; 8 Leads; Row Spacing 7.62 mm; Pitch 2.54 mm)
pins on every part: 4 V- (power), 8 V+ (power)
part A pins: 1 OUT (out), 2 IN- (in), 3 IN+ (in)
part B pins: 5 IN+ (in), 6 IN- (in), 7 OUT (out)

## LM2596 MOD
designator DA?
LM2596S-ADJ/NOPB Power Converter 150 kHz  3A Step-Down Voltage Regulator
footprint LM2596 MOD
pins: 1 VIN (power), 2 GND (power), 3 GND (power), 4 OUT (power)

## LM2596S-ADJ
designator DA?
LM2596S-ADJ/NOPB Power Converter 150 kHz  3A Step-Down Voltage Regulator
footprint TO263-5_N (D2-PAK, 6-Leads, Body 8.6x10.2mm, Pitch 1.7mm, Lead Span 14.1mm, IPC Medium Density)
pins: 1 VIN (power), 2 OUT (power), 3 GND (power), 4 FB (in), 5 ~{ON}/OFF (in), 6 TAB (power)

## LM2901D
designator DA?
Low-Power Quad Voltage Comparator; Published: 24-Aug-2001; LatestRevisionDate: 13-Apr-2006; LatestRevisionNote: IPC-7351 Footprint Added.; DatasheetVersion: Aug-1998; PackageVersion: Sep-1998; PackageReference: SO14; Publisher: Altium Limited; PackageDescription: 14-Pin Small Outline Integrated Circuit 1.27 mm Pitch; Code_IPC: SOIC127P600-14; ComponentLink1Description: Manufacturer Link; ComponentLink1URL: http://www.st.com/; ComponentLink2Description: Datasheet; ComponentLink2URL: http://www.st.com/stonline/products/literature/ds/2468/lm2901.pdf
footprint SO-14_N (SOIC, 14-Leads, Body 8.7x3.9mm, Pitch 1.27mm, IPC Medium Density)
footprint SO14_L (SOIC, 14-Leads, Body 8.7x3.9mm, Pitch 1.27mm, IPC High Density)
footprint SO-14_M (SOIC, 14-Leads, Body 8.7x3.9mm, Pitch 1.27mm, IPC Low Density)
pins on every part: 3 V+ (power), 12 V- (power)
part A pins: 2 OUT (oc), 4 IN- (in), 5 IN+ (in)
part B pins: 1 OUT (oc), 6 IN- (in), 7 IN+ (in)
part C pins: 8 IN- (in), 9 IN+ (in), 14 OUT (oc)
part D pins: 10 IN- (in), 11 IN+ (in), 13 OUT (oc)

## LM2901N
designator DA?
Low-Power Quad Voltage Comparator; Published: 24-Aug-2001; LatestRevisionDate: 06-Jun-2005; LatestRevisionNote: Stylized 3D Model Added.; DatasheetVersion: Aug-1998; PackageVersion: Jan-1997; PackageReference: DIP14; Publisher: Altium Limited; PackageDescription: DIP; 14 Leads; Row Spacing 7.62 mm; Pitch 2.54 mm; ComponentLink1Description: Manufacturer Link; ComponentLink1URL: http://www.st.com/; ComponentLink2Description: Datasheet; ComponentLink2URL: http://www.st.com/stonline/products/literature/ds/2468/lm2901.pdf
footprint DIP-14 (DIP; 14 Leads; Row Spacing 7.62 mm; Pitch 2.54 mm)
pins on every part: 3 V+ (power), 12 V- (power)
part A pins: 2 OUT (oc), 4 IN- (in), 5 IN+ (in)
part B pins: 1 OUT (oc), 6 IN- (in), 7 IN+ (in)
part C pins: 8 IN- (in), 9 IN+ (in), 14 OUT (oc)
part D pins: 10 IN- (in), 11 IN+ (in), 13 OUT (oc)

## LP2985A-xx
designator DA?, comment LP2985A-33
150-mA Low-noise Low-dropout Regulator With Shutdown
footprint SOT-23-5_L (SOT23, 5-Leads, Body 2.9x1.7mm, Pitch 0.95mm, Lead Span 2.8mm, IPC High Density)
footprint SOT-23-5_N (SOT23, 5-Leads, Body 2.9x1.7mm, Pitch 0.95mm, Lead Span 2.8mm, IPC High Density)
pins: 1 VIN (power), 2 GND (power), 3 ON/~{OFF} (in), 4 BYPASS, 5 VOUT (power)

## LVDS_ROS-CN-1M-C4-C-EMITTER
designator XP?
footprint LVDS_ROS-D4S20L-40MA5-C_V (HSD Right Angle Plug, Edge Mount Pin in Paste, 27.3x12x6.95mm, Rosenberger Recommended)
pins: 1, 2, 3, 4, MH
text: Pair A; Pair B

## M95xxx-RDW6TP
designator DD?, comment M95xxx
Serial SPI bus EEPROM with high-speed clock
footprint TSSOP-8 (Shrink Small Outline, Plastic, Thin; 8 Leads; Body Width 4.4 mm; Pitch 0.65 mm)
pins: 1 ~{CS} (in), 2 SO (hiz), 3 ~{WP} (in), 4 VSS (power), 5 SI (in), 6 SCK (in), 7 ~{HOLD} (in), 8 VCC (power)

## MAX1044ESA
designator DA?, comment MAX1044
Switched-Capacitor Voltage Converters; Published: 24-Aug-2001; LatestRevisionDate: 17-Jul-2002; LatestRevisionNote: Re-released for DXP Platform.; DatasheetVersion: Feb-1999; PackageReference: TO92; Publisher: Altium Limited; PackageDescription: TO, Flat Index; 3 In-Line, Axial Leads; Body Dia. 4.8mm; Leads 0.51 x 0.51 mm (max); ComponentLink1Description: Manufacturer Link; ComponentLink1URL: http://www.st.com/
footprint SOIC-8_N (SOIC, 8-Leads, Body 4.9x3.9mm, Pitch 1.27mm, IPC Medium Density)
pins: 1 NC, 2 CAP+, 3 GND, 4 CAP-, 5 Vout, 6 LV, 7 OSC, 8 V+

## MAX3232CSE
designator DA?
3.0V TO 5.5V, Low-Power, up to 1Mbps, True RS-232 Transceiver Using Four 0.1µF External Capacitor; Published: 16-Jan-2001; LatestRevisionDate: 13-Apr-2006; LatestRevisionNote: IPC-7351 Footprint Added.; DatasheetVersion: Mar-1999; PackageReference: NSO16; Publisher: Altium Limited; PackageDescription: 16-Pin Small Outline Integrated Circuit 1.27 mm Pitch; Code_JEDEC: MS-012-AC; Code_IPC: SOIC127P600-16; ComponentLink1Description: Manufacturer Link; ComponentLink1URL: http://www.maxim-ic.com/; ComponentLink2Description: Datasheet; ComponentLink2URL: http://pdfserv.maxim-ic.com/en/ds/MAX3222-MAX3241.pdf
footprint SOIC-16_L (SOIC, 16-Leads, Body 9.9x3.9mm, Pitch 1.27mm, IPC High Density)
footprint SOIC-16_M (SOIC, 16-Leads, Body 9.9x3.9mm, Pitch 1.27mm, IPC Low Density)
footprint SOIC-16_N (SOIC, 16-Leads, Body 9.9x3.9mm, Pitch 1.27mm, IPC Medium Density)
pins: 1 C1+, 2 V+, 3 C1-, 4 C2+, 5 C2-, 6 V-, 7 T2OUT, 8 R2IN, 9 R2OUT, 10 T2IN, 11 T1IN, 12 R1OUT, 13 R1IN, 14 T1OUT, 15 GND, 16 VCC

## MAX9259
designator DD?
3.12Gbps GMSL Serializers for Coax or  STP Output Drive and Parallel Input
footprint TQFP64_L (Thin QFP, 64-Leads, Body 10x10mm, Pitch 0.5mm, IPC High Density)
pins: 1 DIN12, 2 DIN13, 3 DIN14, 4 DIN15, 5 DIN16, 6 PCLKIN, 7 IOVDD, 8 GND, 9 AGND, 10 AVDD, 11 DIN17, 12 DIN18, 13 DIN19, 14 DIN20, 15 DIN21, 16 DIN22, 17 DIN23, 18 AGND, 19 DVDD, 20 GND, 21 DIN24, 22 DIN25, 23 DIN26, 24 DIN27, 25 DIN28, 26 SD, 27 SCK, 28 WS, 29 ~{AUTOS}, 30 IOVDD, 31 GND, 32 MS, 33 CDS, 34 ~{PWDN}, 35 RX/SDA, 36 TX/SCL, 37 SSEN, 38 LMN1, 39 AGND, 40 OUT-, 41 OUT+, 42 AVDD, 43 LMN0, 44 ~{LFLT}, 45 INT, 46 DRS, 47 ES, 48 BWS, 49 DIN0, 50 GND, 51 IOVDD, 52 DIN1, 53 DIN2, 54 DIN3, 55 DIN4, 56 DIN5, 57 DIN6, 58 DIN7, 59 DIN8, 60 DIN9, 61 GND, 62 DVDD, 63 DIN10, 64 DIN11

## MAX9275
designator DD?
3.12Gbps GMSL Serializers for Coax or  STP Output Drive and Parallel Input
footprint QFN56_N (QFN, 64-Leads, Body 9x9mm, Pitch 0.5mm, Thermal Pad 4.5x4.5mm, IPC Medium Density)
pins: 1 DIN12, 2 DIN13, 3 DIN14, 4 DIN15, 5 DIN16, 6 PCLKIN, 7 IOVDD, 8 AVDD, 9 DIN17, 10 DIN18/HS, 11 DIN19/VS, 12 DIN20/DE, 13 DIN21, 14 DIN22, 15 DIN23, 16 DVDD, 17 DIN24, 18 DIN25, 19 DIN26, 20 DIN27/CNTL1, 21 DIN28/CNTL2, 22 SD, 23 SCK, 24 WS, 25 CONF3, 26 IOVDD, 27 MS/CNTL0, 28 CDS/CNTL3, 29 ~{PWDN}, 30 RX/SDA, 31 TX/SCL, 32 CONF1, 33 LMN1, 34 OUT-, 35 OUT+, 36 AVDD, 37 LMN0, 38 ~{LFLT}, 39 GPO/HIM, 40 CONF0, 41 CONF2, 42 BWS, 43 DIN0, 44 IOVDD, 45 DIN1, 46 DIN2, 47 DIN3, 48 DIN4, 49 DIN5, 50 DIN6, 51 DIN7, 52 DIN8, 53 DIN9, 54 DVDD, 55 DIN10, 56 DIN11, 57 GND